# Altium schematic symbol library AX_Altium_v2.3.SchLib: 297 symbols (part 2 of 3)
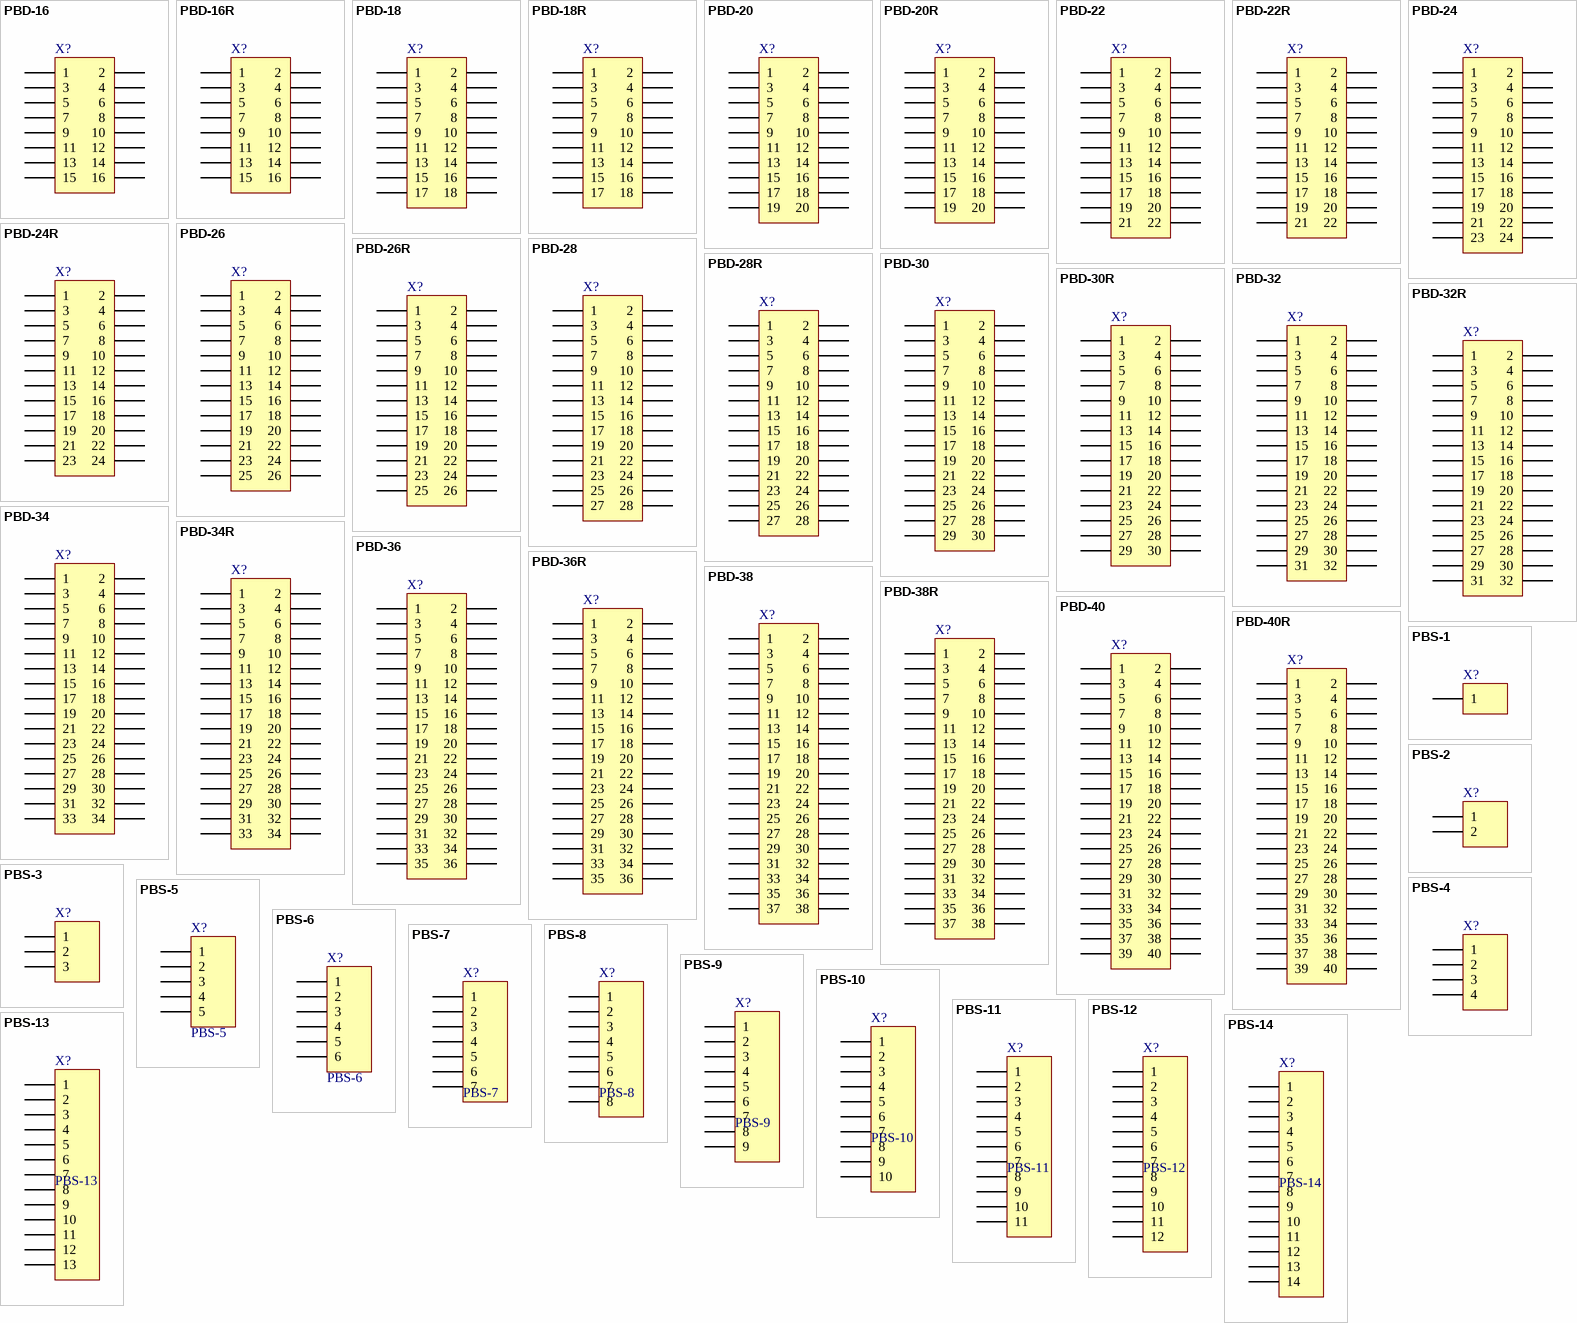
[diagram p10: symbols PBD-16 to PBS-14]

## PBS-13
designator X?
Header, 13-Pin; LatestRevisionDate: 17-Jul-2002; LatestRevisionNote: Re-released for DXP Platform.; Publisher: Altium Limited
footprint PXS-13 (Connector; Header; 13 Position)
footprint PBS-13-3D (Connector; Header; 13 Position)
pins: 1, 2, 3, 4, 5, 6, 7, 8, 9, 10, 11, 12, 13

## PBS-14
designator X?
Header, 14-Pin; LatestRevisionDate: 17-Jul-2002; LatestRevisionNote: Re-released for DXP Platform.; Publisher: Altium Limited
footprint PXS-14 (Connector; Header; 14 Position)
footprint PBS-14-3D (Connector; Header; 14 Position)
pins: 1, 2, 3, 4, 5, 6, 7, 8, 9, 10, 11, 12, 13, 14

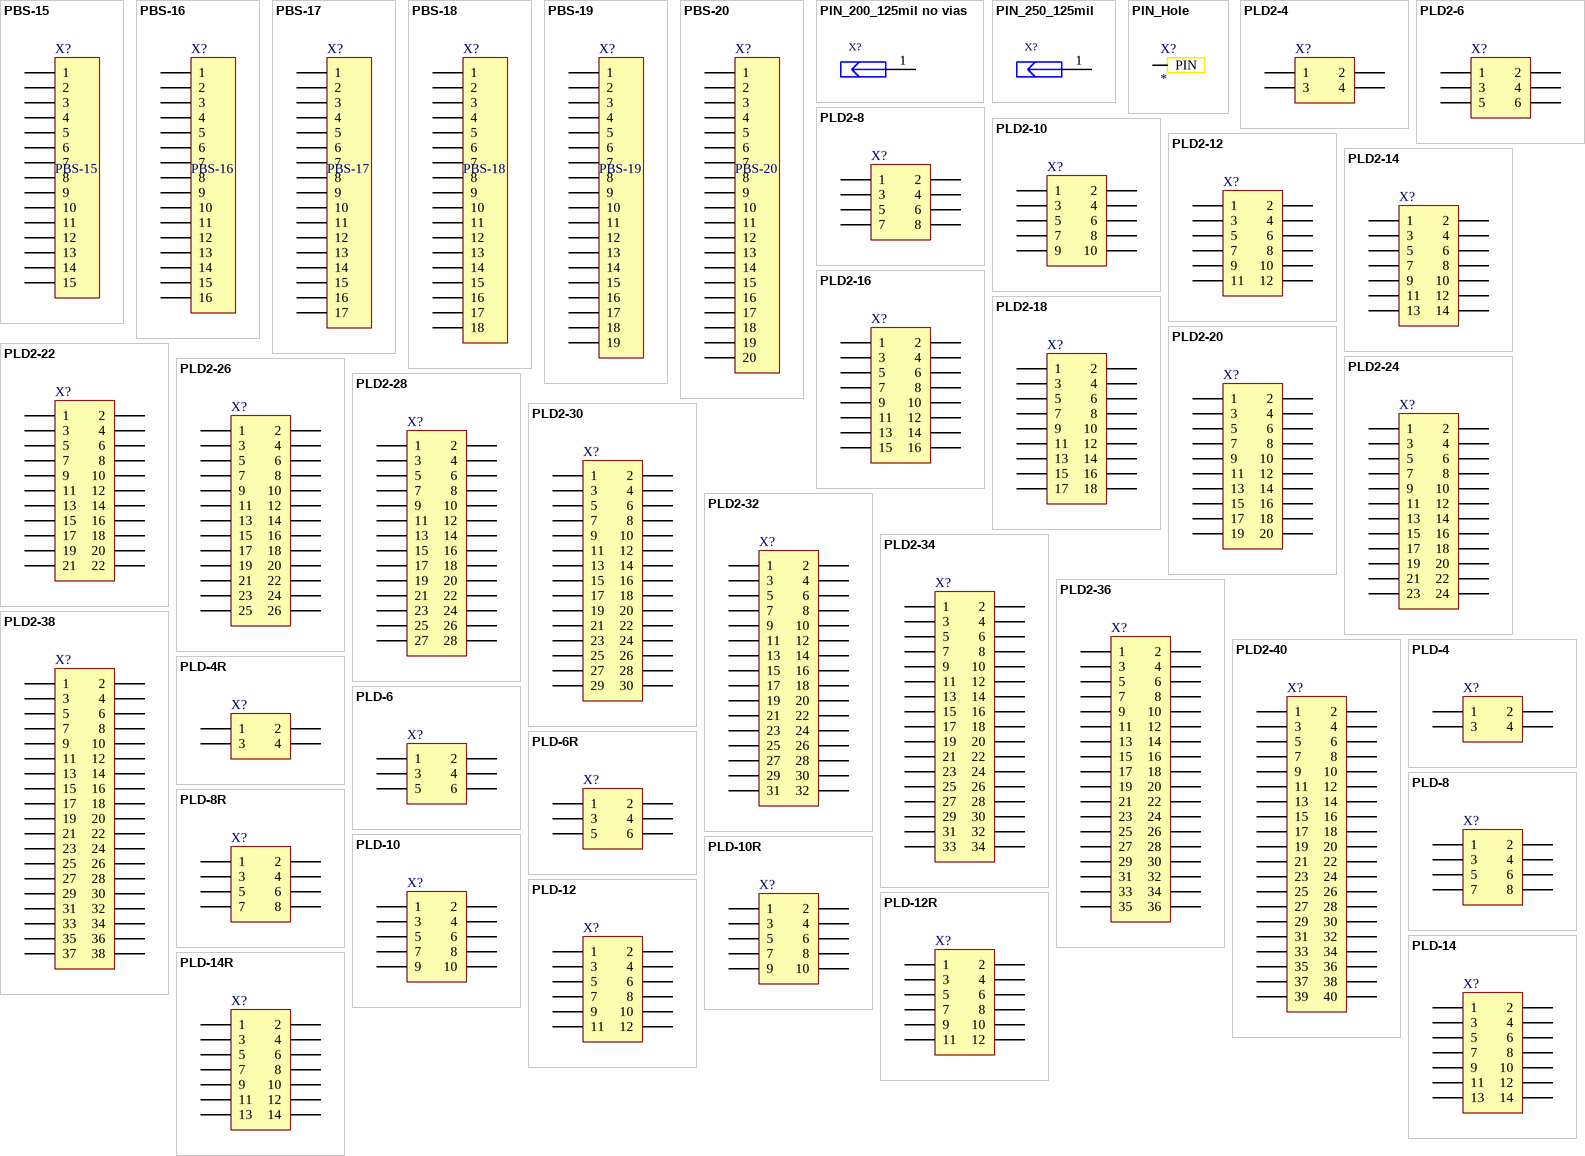
[diagram p4: symbols PBS-15 to PLD-14R]

## PBS-15
designator X?
Header, 15-Pin; LatestRevisionDate: 17-Jul-2002; LatestRevisionNote: Re-released for DXP Platform.; Publisher: Altium Limited
footprint PXS-15 (Connector; Header; 15 Position)
footprint PBS-15-3D (Connector; Header; 15 Position)
pins: 1, 2, 3, 4, 5, 6, 7, 8, 9, 10, 11, 12, 13, 14, 15

## PBS-16
designator X?
Header, 16-Pin; LatestRevisionDate: 17-Jul-2002; LatestRevisionNote: Re-released for DXP Platform.; Publisher: Altium Limited
footprint PXS-16 (Connector; Header; 16 Position)
footprint PBS-16-3D (Connector; Header; 16 Position)
pins: 1, 2, 3, 4, 5, 6, 7, 8, 9, 10, 11, 12, 13, 14, 15, 16

## PBS-17
designator X?
Header, 17-Pin; LatestRevisionDate: 17-Jul-2002; LatestRevisionNote: Re-released for DXP Platform.; Publisher: Altium Limited
footprint PXS-17 (Connector; Header; 17 Position)
footprint PBS-17-3D (Connector; Header; 17 Position)
pins: 1, 2, 3, 4, 5, 6, 7, 8, 9, 10, 11, 12, 13, 14, 15, 16, 17

## PBS-18
designator X?
Header, 18-Pin; LatestRevisionDate: 17-Jul-2002; LatestRevisionNote: Re-released for DXP Platform.; Publisher: Altium Limited
footprint PXS-18 (Connector; Header; 18 Position)
footprint PBS-18-3D (Connector; Header; 18 Position)
pins: 1, 2, 3, 4, 5, 6, 7, 8, 9, 10, 11, 12, 13, 14, 15, 16, 17, 18

## PBS-19
designator X?
Header, 19-Pin; LatestRevisionDate: 17-Jul-2002; LatestRevisionNote: Re-released for DXP Platform.; Publisher: Altium Limited
footprint PXS-19 (Connector; Header; 19 Position)
footprint PBS-19-3D (Connector; Header; 19 Position)
pins: 1, 2, 3, 4, 5, 6, 7, 8, 9, 10, 11, 12, 13, 14, 15, 16, 17, 18, 19

## PBS-20
designator X?
Header, 20-Pin; LatestRevisionDate: 17-Jul-2002; LatestRevisionNote: Re-released for DXP Platform.; Publisher: Altium Limited
footprint PXS-20 (Connector; Header; 20 Position)
footprint PBS-20-3D (Connector; Header; 20 Position)
pins: 1, 2, 3, 4, 5, 6, 7, 8, 9, 10, 11, 12, 13, 14, 15, 16, 17, 18, 19, 20

## PIN_200_125mil no vias
designator X?, comment Pin 200x125 mil no vias  (value not drawn)
Pin 200x125 mil; Value: *
footprint PIN_200_125 no vias
pins: 1

## PIN_250_125mil
designator X?, comment Pin 250x125 mil  (value not drawn)
Value: *
footprint PIN_250_125
pins: 1

## PIN_Hole
designator X?
footprint PIN_Hole (Pin for PS1_module (FOX G20))
footprint PIN_Hole-6
footprint PIN_Hole-09-15
pins: 1 PIN

## PLD2-4
designator X?  (value not drawn)
Header, 2-Pin, Dual row; LatestRevisionDate: 17-Jul-2002; LatestRevisionNote: Re-released for DXP Platform.; Publisher: Altium Limited
footprint PLD-4-2 (Connector; Header; 2x2 Position)
footprint PXD-4-2 (Connector; Header; 2x2 Position)
pins: 1, 2, 3, 4

## PLD2-6
designator X?  (value not drawn)
Header, 3-Pin, Dual row; LatestRevisionDate: 17-Jul-2002; LatestRevisionNote: Re-released for DXP Platform.; Publisher: Altium Limited
footprint PLD-6-2 (Connector; Header; 3x2 Position)
footprint PXD-6-2 (Connector; Header; 3x2 Position)
pins: 1, 2, 3, 4, 5, 6

## PLD2-8
designator X?  (value not drawn)
Header, 4-Pin, Dual row
footprint PLD-8-2 (Connector; Header; 4x2 Position)
footprint PXD-8-2 (Connector; Header; 4x2 Position)
pins: 1, 2, 3, 4, 5, 6, 7, 8

## PLD2-10
designator X?  (value not drawn)
Header, 5-Pin, Dual row
footprint PLD-10-2 (Connector; Header; 5x2 Position)
footprint PXD-10-2 (Connector; Header; 5x2 Position)
pins: 1, 2, 3, 4, 5, 6, 7, 8, 9, 10

## PLD2-12
designator X?  (value not drawn)
Header, 6-Pin, Dual row; LatestRevisionDate: 17-Jul-2002; LatestRevisionNote: Re-released for DXP Platform.; Publisher: Altium Limited
footprint PLD-12-2 (Connector; Header; 6x2 Position)
footprint PXD-12-2 (Connector; Header; 6x2 Position)
pins: 1, 2, 3, 4, 5, 6, 7, 8, 9, 10, 11, 12

## PLD2-14
designator X?  (value not drawn)
Header, 7-Pin, Dual row; LatestRevisionDate: 17-Jul-2002; LatestRevisionNote: Re-released for DXP Platform.; Publisher: Altium Limited
footprint PLD-14-2 (Connector; Header; 7x2 Position)
footprint PXD-14-2 (Connector; Header; 7x2 Position)
pins: 1, 2, 3, 4, 5, 6, 7, 8, 9, 10, 11, 12, 13, 14

## PLD2-16
designator X?  (value not drawn)
Header, 8-Pin, Dual row; LatestRevisionDate: 17-Jul-2002; LatestRevisionNote: Re-released for DXP Platform.; Publisher: Altium Limited
footprint PLD-16-2 (Connector; Header; 8x2 Position)
footprint PXD-16-2 (Connector; Header; 8x2 Position)
pins: 1, 2, 3, 4, 5, 6, 7, 8, 9, 10, 11, 12, 13, 14, 15, 16

## PLD2-18
designator X?  (value not drawn)
Header, 9-Pin, Dual row; LatestRevisionDate: 17-Jul-2002; LatestRevisionNote: Re-released for DXP Platform.; Publisher: Altium Limited
footprint PLD-18-2 (Connector; Header; 9x2 Position)
footprint PXD-18-2 (Connector; Header; 9x2 Position)
pins: 1, 2, 3, 4, 5, 6, 7, 8, 9, 10, 11, 12, 13, 14, 15, 16, 17, 18

## PLD2-20
designator X?  (value not drawn)
Header, 10-Pin, Dual row; LatestRevisionDate: 17-Jul-2002; LatestRevisionNote: Re-released for DXP Platform.; Publisher: Altium Limited
footprint PLD-20-2 (Connector; Header; 10x2 Position)
footprint PXD-20-2 (Connector; Header; 10x2 Position)
pins: 1, 2, 3, 4, 5, 6, 7, 8, 9, 10, 11, 12, 13, 14, 15, 16, 17, 18, 19, 20

## PLD2-22
designator X?  (value not drawn)
Header, 11-Pin, Dual row; LatestRevisionDate: 17-Jul-2002; LatestRevisionNote: Re-released for DXP Platform.; Publisher: Altium Limited
footprint PLD-22-2 (Connector; Header; 11x2 Position)
footprint PXD-22-2 (Connector; Header; 11x2 Position)
pins: 1, 2, 3, 4, 5, 6, 7, 8, 9, 10, 11, 12, 13, 14, 15, 16, 17, 18, 19, 20, 21, 22

## PLD2-24
designator X?  (value not drawn)
Header, 12-Pin, Dual row; LatestRevisionDate: 17-Jul-2002; LatestRevisionNote: Re-released for DXP Platform.; Publisher: Altium Limited
footprint pld-24-2 (Connector; Header; 12x2 Position)
footprint pxd-24-2 (Connector; Header; 12x2 Position)
pins: 1, 2, 3, 4, 5, 6, 7, 8, 9, 10, 11, 12, 13, 14, 15, 16, 17, 18, 19, 20, 21, 22, 23, 24

## PLD2-26
designator X?  (value not drawn)
Header, 13-Pin, Dual row; LatestRevisionDate: 17-Jul-2002; LatestRevisionNote: Re-released for DXP Platform.; Publisher: Altium Limited
footprint PLD-26-2 (Connector; Header; 13x2 Position)
footprint PXD-26-2 (Connector; Header; 13x2 Position)
pins: 1, 2, 3, 4, 5, 6, 7, 8, 9, 10, 11, 12, 13, 14, 15, 16, 17, 18, 19, 20, 21, 22, 23, 24, 25, 26

## PLD2-28
designator X?  (value not drawn)
Header, 14-Pin, Dual row; LatestRevisionDate: 17-Jul-2002; LatestRevisionNote: Re-released for DXP Platform.; Publisher: Altium Limited
footprint PLD-28-2 (Connector; Header; 14x2 Position)
footprint PXD-28-2 (Connector; Header; 14x2 Position)
pins: 1, 2, 3, 4, 5, 6, 7, 8, 9, 10, 11, 12, 13, 14, 15, 16, 17, 18, 19, 20, 21, 22, 23, 24, 25, 26, 27, 28

## PLD2-30
designator X?  (value not drawn)
Header, 15-Pin, Dual row; LatestRevisionDate: 17-Jul-2002; LatestRevisionNote: Re-released for DXP Platform.; Publisher: Altium Limited
footprint PLD-30-2 (Connector; Header; 15x2 Position)
footprint PXD-30-2 (Connector; Header; 15x2 Position)
pins: 1, 2, 3, 4, 5, 6, 7, 8, 9, 10, 11, 12, 13, 14, 15, 16, 17, 18, 19, 20, 21, 22, 23, 24, 25, 26, 27, 28, 29, 30

## PLD2-32
designator X?  (value not drawn)
Header, 16-Pin, Dual row; LatestRevisionDate: 17-Jul-2002; LatestRevisionNote: Re-released for DXP Platform.; Publisher: Altium Limited
footprint PLD-32-2 (Connector; Header; 16x2 Position)
footprint PXD-32-2 (Connector; Header; 16x2 Position)
pins: 1, 2, 3, 4, 5, 6, 7, 8, 9, 10, 11, 12, 13, 14, 15, 16, 17, 18, 19, 20, 21, 22, 23, 24, 25, 26, 27, 28, 29, 30, 31, 32

## PLD2-34
designator X?  (value not drawn)
Header, 17-Pin, Dual row; LatestRevisionDate: 17-Jul-2002; LatestRevisionNote: Re-released for DXP Platform.; Publisher: Altium Limited
footprint PLD-34-2 (Connector; Header; 17x2 Position)
footprint PXD-34-2 (Connector; Header; 17x2 Position)
pins: 1, 2, 3, 4, 5, 6, 7, 8, 9, 10, 11, 12, 13, 14, 15, 16, 17, 18, 19, 20, 21, 22, 23, 24, 25, 26, 27, 28, 29, 30, 31, 32, 33, 34

## PLD2-36
designator X?  (value not drawn)
Header, 18-Pin, Dual row; LatestRevisionDate: 17-Jul-2002; LatestRevisionNote: Re-released for DXP Platform.; Publisher: Altium Limited
footprint PLD-36-2 (Connector; Header; 18x2 Position)
footprint PXD-36-2 (Connector; Header; 18x2 Position)
pins: 1, 2, 3, 4, 5, 6, 7, 8, 9, 10, 11, 12, 13, 14, 15, 16, 17, 18, 19, 20, 21, 22, 23, 24, 25, 26, 27, 28, 29, 30, 31, 32, 33, 34, 35, 36

## PLD2-38
designator X?  (value not drawn)
Header, 19-Pin, Dual row; LatestRevisionDate: 17-Jul-2002; LatestRevisionNote: Re-released for DXP Platform.; Publisher: Altium Limited
footprint PLD-38-2 (Connector; Header; 19x2 Position)
footprint PXD-38-2 (Connector; Header; 19x2 Position)
pins: 1, 2, 3, 4, 5, 6, 7, 8, 9, 10, 11, 12, 13, 14, 15, 16, 17, 18, 19, 20, 21, 22, 23, 24, 25, 26, 27, 28, 29, 30, 31, 32, 33, 34, 35, 36, 37, 38

## PLD2-40
designator X?  (value not drawn)
Header, 20-Pin, Dual row; LatestRevisionDate: 17-Jul-2002; LatestRevisionNote: Re-released for DXP Platform.; Publisher: Altium Limited
footprint PLD-40-2 (Connector; Header; 20x2 Position)
footprint PXD-40-2 (Connector; Header; 20x2 Position)
pins: 1, 2, 3, 4, 5, 6, 7, 8, 9, 10, 11, 12, 13, 14, 15, 16, 17, 18, 19, 20, 21, 22, 23, 24, 25, 26, 27, 28, 29, 30, 31, 32, 33, 34, 35, 36, 37, 38, 39, 40

## PLD-4
designator X?  (value not drawn)
Header, 2-Pin, Dual row; LatestRevisionDate: 17-Jul-2002; LatestRevisionNote: Re-released for DXP Platform.; Publisher: Altium Limited
footprint PLD-4-3D (Connector; Header; 2x2 Position)
footprint PXD-4 (Connector; Header; 2x2 Position)
pins: 1, 2, 3, 4

## PLD-4R
designator X?  (value not drawn)
Header, 2-Pin, Dual row; LatestRevisionDate: 17-Jul-2002; LatestRevisionNote: Re-released for DXP Platform.; Publisher: Altium Limited
footprint PLD-4RR1 (Connector; Header; 2x2 Position)
footprint PLD-4RL1 (Connector; Header; 2x2 Position)
footprint PLD-4RR2 (Connector; Header; 2x2 Position)
footprint PLD-4RL2 (Connector; Header; 2x2 Position)
pins: 1, 2, 3, 4

## PLD-6
designator X?  (value not drawn)
Header, 3-Pin, Dual row; LatestRevisionDate: 17-Jul-2002; LatestRevisionNote: Re-released for DXP Platform.; Publisher: Altium Limited
footprint PLD-6-3D (Connector; Header; 3x2 Position)
footprint PXD-6 (Connector; Header; 3x2 Position)
pins: 1, 2, 3, 4, 5, 6

## PLD-6R
designator X?  (value not drawn)
Header, 3-Pin, Dual row; LatestRevisionDate: 17-Jul-2002; LatestRevisionNote: Re-released for DXP Platform.; Publisher: Altium Limited
footprint PLD-6RR1 (Connector; Header; 3x2 Position)
footprint PLD-6RL1 (Connector; Header; 3x2 Position)
footprint PLD-6RR2 (Connector; Header; 3x2 Position)
footprint PLD-6RL2 (Connector; Header; 3x2 Position)
pins: 1, 2, 3, 4, 5, 6

## PLD-8
designator X?  (value not drawn)
Header, 4-Pin, Dual row
footprint PLD-8-3D (Connector; Header; 4x2 Position)
footprint PXD-8 (Connector; Header; 4x2 Position)
pins: 1, 2, 3, 4, 5, 6, 7, 8

## PLD-8R
designator X?  (value not drawn)
Header, 4-Pin, Dual row
footprint PLD-8RR1 (Connector; Header; 4x2 Position)
footprint PLD-8RL1 (Connector; Header; 4x2 Position)
footprint PLD-8RR2 (Connector; Header; 4x2 Position)
footprint PLD-8RL2 (Connector; Header; 4x2 Position)
pins: 1, 2, 3, 4, 5, 6, 7, 8

## PLD-10
designator X?  (value not drawn)
Header, 5-Pin, Dual row
footprint PLD-10-3D (Connector; Header; 5x2 Position)
footprint PXD-10 (Connector; Header; 5x2 Position)
pins: 1, 2, 3, 4, 5, 6, 7, 8, 9, 10

## PLD-10R
designator X?  (value not drawn)
Header, 5-Pin, Dual row
footprint PLD-10RR1 (Connector; Header; 5x2 Position)
footprint PLD-10RL1 (Connector; Header; 5x2 Position)
footprint PLD-10RR2 (Connector; Header; 5x2 Position)
footprint PLD-10RL2 (Connector; Header; 5x2 Position)
pins: 1, 2, 3, 4, 5, 6, 7, 8, 9, 10

## PLD-12
designator X?  (value not drawn)
Header, 6-Pin, Dual row; LatestRevisionDate: 17-Jul-2002; LatestRevisionNote: Re-released for DXP Platform.; Publisher: Altium Limited
footprint PLD-12-3D (Connector; Header; 6x2 Position)
footprint PXD-12 (Connector; Header; 6x2 Position)
pins: 1, 2, 3, 4, 5, 6, 7, 8, 9, 10, 11, 12

## PLD-12R
designator X?  (value not drawn)
Header, 6-Pin, Dual row; LatestRevisionDate: 17-Jul-2002; LatestRevisionNote: Re-released for DXP Platform.; Publisher: Altium Limited
footprint PLD-12RR1 (Connector; Header; 6x2 Position)
footprint PLD-12RL1 (Connector; Header; 6x2 Position)
footprint PLD-12RR2 (Connector; Header; 6x2 Position)
footprint PLD-12RL2 (Connector; Header; 6x2 Position)
pins: 1, 2, 3, 4, 5, 6, 7, 8, 9, 10, 11, 12

## PLD-14
designator X?  (value not drawn)
Header, 7-Pin, Dual row; LatestRevisionDate: 17-Jul-2002; LatestRevisionNote: Re-released for DXP Platform.; Publisher: Altium Limited
footprint PLD-14-3D (Connector; Header; 7x2 Position)
footprint PXD-14 (Connector; Header; 7x2 Position)
pins: 1, 2, 3, 4, 5, 6, 7, 8, 9, 10, 11, 12, 13, 14

## PLD-14R
designator X?  (value not drawn)
Header, 7-Pin, Dual row; LatestRevisionDate: 17-Jul-2002; LatestRevisionNote: Re-released for DXP Platform.; Publisher: Altium Limited
footprint PLD-14RR1 (Connector; Header; 7x2 Position)
footprint PLD-14RL1 (Connector; Header; 7x2 Position)
footprint PLD-14RR2 (Connector; Header; 7x2 Position)
footprint PLD-14RL2 (Connector; Header; 7x2 Position)
pins: 1, 2, 3, 4, 5, 6, 7, 8, 9, 10, 11, 12, 13, 14

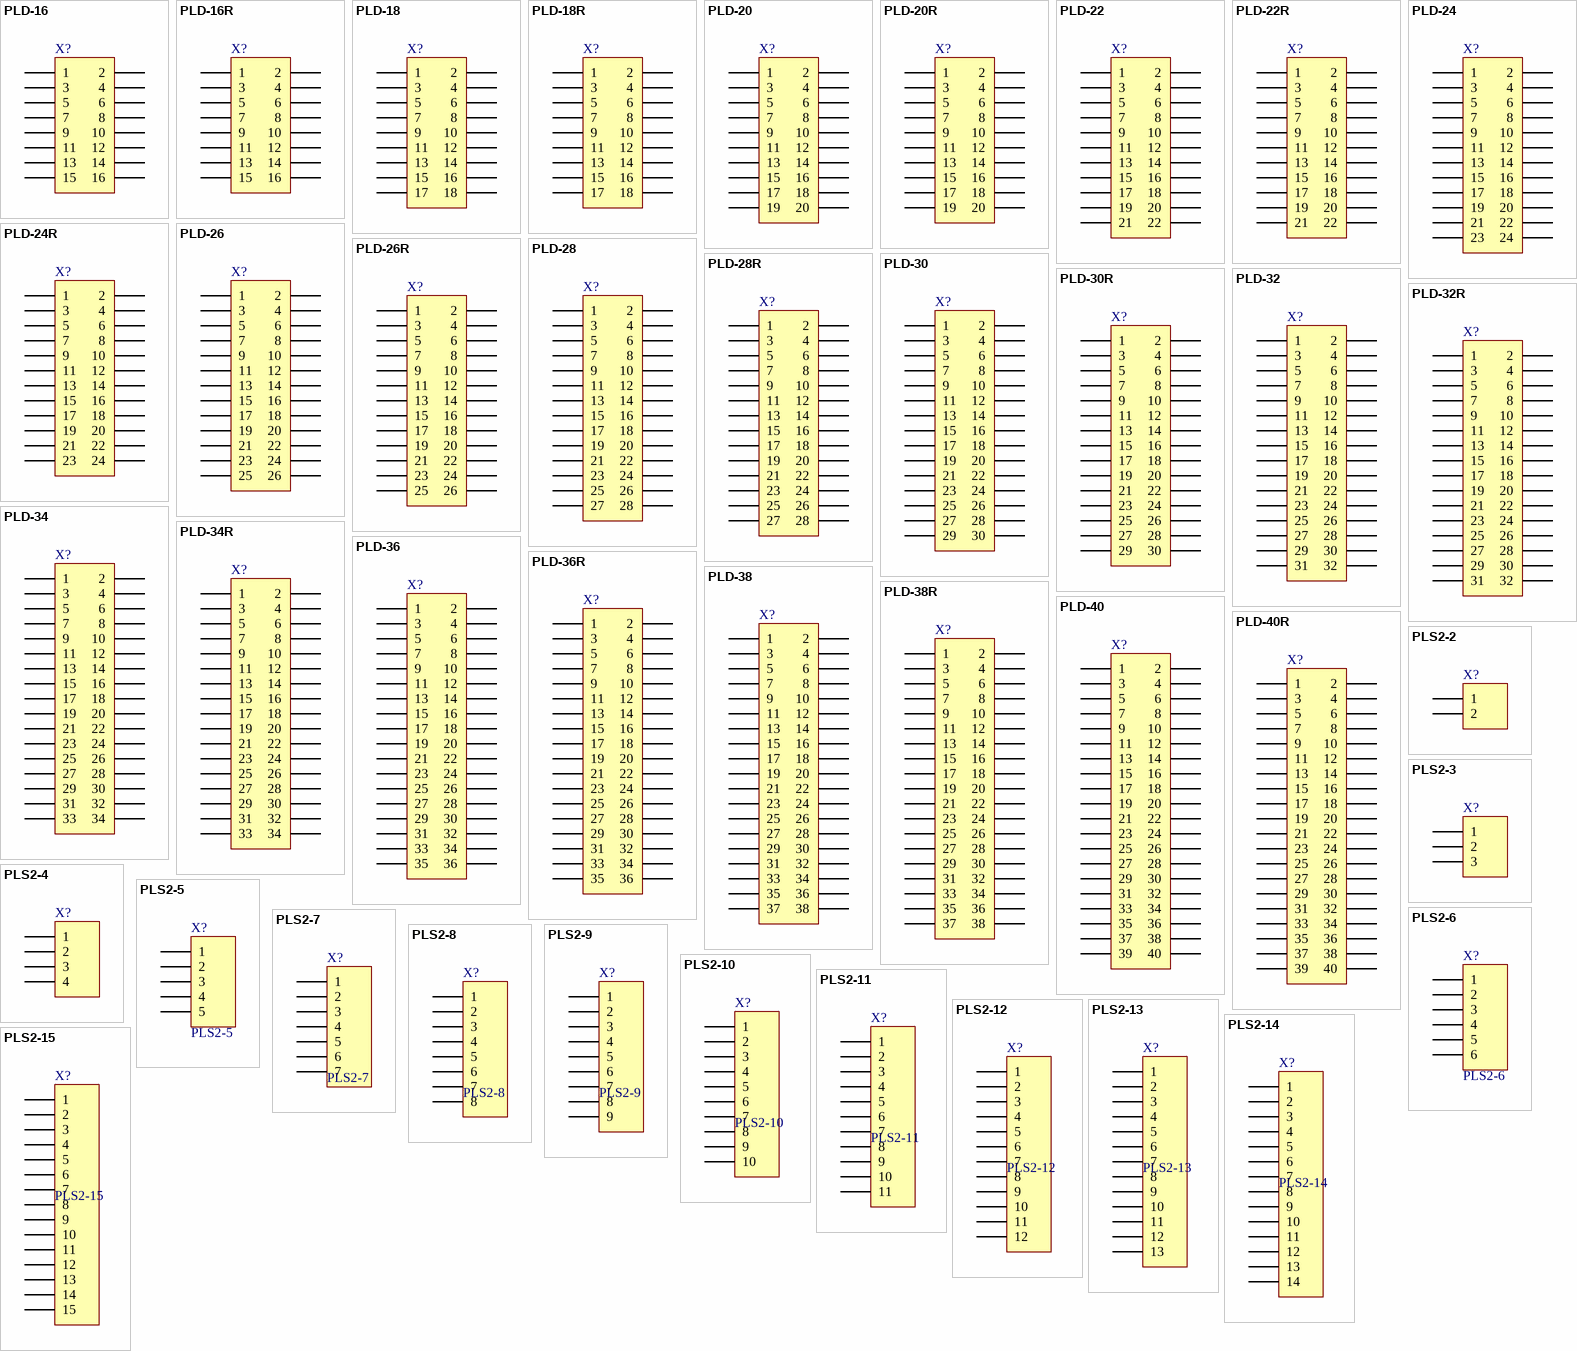
[diagram p5: symbols PLD-16 to PLS2-15]

## PLD-16
designator X?  (value not drawn)
Header, 8-Pin, Dual row; LatestRevisionDate: 17-Jul-2002; LatestRevisionNote: Re-released for DXP Platform.; Publisher: Altium Limited
footprint PLD-16-3D (Connector; Header; 8x2 Position)
footprint PXD-16 (Connector; Header; 8x2 Position)
pins: 1, 2, 3, 4, 5, 6, 7, 8, 9, 10, 11, 12, 13, 14, 15, 16

## PLD-16R
designator X?  (value not drawn)
Header, 8-Pin, Dual row; LatestRevisionDate: 17-Jul-2002; LatestRevisionNote: Re-released for DXP Platform.; Publisher: Altium Limited
footprint PLD-16RR1 (Connector; Header; 8x2 Position)
footprint PLD-16RL1 (Connector; Header; 8x2 Position)
footprint PLD-16RR2 (Connector; Header; 8x2 Position)
footprint PLD-16RL2 (Connector; Header; 8x2 Position)
pins: 1, 2, 3, 4, 5, 6, 7, 8, 9, 10, 11, 12, 13, 14, 15, 16

## PLD-18
designator X?  (value not drawn)
Header, 9-Pin, Dual row; LatestRevisionDate: 17-Jul-2002; LatestRevisionNote: Re-released for DXP Platform.; Publisher: Altium Limited
footprint PLD-18-3D (Connector; Header; 9x2 Position)
footprint PXD-18 (Connector; Header; 9x2 Position)
pins: 1, 2, 3, 4, 5, 6, 7, 8, 9, 10, 11, 12, 13, 14, 15, 16, 17, 18

## PLD-18R
designator X?  (value not drawn)
Header, 9-Pin, Dual row; LatestRevisionDate: 17-Jul-2002; LatestRevisionNote: Re-released for DXP Platform.; Publisher: Altium Limited
footprint PLD-18RR1 (Connector; Header; 9x2 Position)
footprint PLD-18RL1 (Connector; Header; 9x2 Position)
footprint PLD-18RR2 (Connector; Header; 9x2 Position)
footprint PLD-18RL2 (Connector; Header; 9x2 Position)
pins: 1, 2, 3, 4, 5, 6, 7, 8, 9, 10, 11, 12, 13, 14, 15, 16, 17, 18

## PLD-20
designator X?  (value not drawn)
Header, 10-Pin, Dual row; LatestRevisionDate: 17-Jul-2002; LatestRevisionNote: Re-released for DXP Platform.; Publisher: Altium Limited
footprint PLD-20-3D (Connector; Header; 10x2 Position)
footprint PXD-20 (Connector; Header; 10x2 Position)
pins: 1, 2, 3, 4, 5, 6, 7, 8, 9, 10, 11, 12, 13, 14, 15, 16, 17, 18, 19, 20

## PLD-20R
designator X?  (value not drawn)
Header, 10-Pin, Dual row; LatestRevisionDate: 17-Jul-2002; LatestRevisionNote: Re-released for DXP Platform.; Publisher: Altium Limited
footprint PLD-20RR1 (Connector; Header; 10x2 Position)
footprint PLD-20RL1 (Connector; Header; 10x2 Position)
footprint PLD-20RR2 (Connector; Header; 10x2 Position)
footprint PLD-20RL2 (Connector; Header; 10x2 Position)
pins: 1, 2, 3, 4, 5, 6, 7, 8, 9, 10, 11, 12, 13, 14, 15, 16, 17, 18, 19, 20

## PLD-22
designator X?  (value not drawn)
Header, 11-Pin, Dual row; LatestRevisionDate: 17-Jul-2002; LatestRevisionNote: Re-released for DXP Platform.; Publisher: Altium Limited
footprint PLD-22-3D (Connector; Header; 11x2 Position)
footprint PXD-22 (Connector; Header; 11x2 Position)
pins: 1, 2, 3, 4, 5, 6, 7, 8, 9, 10, 11, 12, 13, 14, 15, 16, 17, 18, 19, 20, 21, 22

## PLD-22R
designator X?  (value not drawn)
Header, 11-Pin, Dual row; LatestRevisionDate: 17-Jul-2002; LatestRevisionNote: Re-released for DXP Platform.; Publisher: Altium Limited
footprint PLD-22RR1 (Connector; Header; 11x2 Position)
footprint PLD-22RL1 (Connector; Header; 11x2 Position)
footprint PLD-22RR2 (Connector; Header; 11x2 Position)
footprint PLD-22RL2 (Connector; Header; 11x2 Position)
pins: 1, 2, 3, 4, 5, 6, 7, 8, 9, 10, 11, 12, 13, 14, 15, 16, 17, 18, 19, 20, 21, 22

## PLD-24
designator X?  (value not drawn)
Header, 12-Pin, Dual row; LatestRevisionDate: 17-Jul-2002; LatestRevisionNote: Re-released for DXP Platform.; Publisher: Altium Limited
footprint PLD-24-3D (Connector; Header; 12x2 Position)
footprint PXD-24 (Connector; Header; 12x2 Position)
pins: 1, 2, 3, 4, 5, 6, 7, 8, 9, 10, 11, 12, 13, 14, 15, 16, 17, 18, 19, 20, 21, 22, 23, 24

## PLD-24R
designator X?  (value not drawn)
Header, 12-Pin, Dual row; LatestRevisionDate: 17-Jul-2002; LatestRevisionNote: Re-released for DXP Platform.; Publisher: Altium Limited
footprint PLD-24RR1 (Connector; Header; 12x2 Position)
footprint PLD-24RL1 (Connector; Header; 12x2 Position)
footprint PLD-24RR2 (Connector; Header; 12x2 Position)
footprint PLD-24RL2 (Connector; Header; 12x2 Position)
pins: 1, 2, 3, 4, 5, 6, 7, 8, 9, 10, 11, 12, 13, 14, 15, 16, 17, 18, 19, 20, 21, 22, 23, 24

## PLD-26
designator X?  (value not drawn)
Header, 13-Pin, Dual row; LatestRevisionDate: 17-Jul-2002; LatestRevisionNote: Re-released for DXP Platform.; Publisher: Altium Limited
footprint PLD-26-3D (Connector; Header; 13x2 Position)
footprint PXD-26 (Connector; Header; 13x2 Position)
pins: 1, 2, 3, 4, 5, 6, 7, 8, 9, 10, 11, 12, 13, 14, 15, 16, 17, 18, 19, 20, 21, 22, 23, 24, 25, 26

## PLD-26R
designator X?  (value not drawn)
Header, 13-Pin, Dual row; LatestRevisionDate: 17-Jul-2002; LatestRevisionNote: Re-released for DXP Platform.; Publisher: Altium Limited
footprint PLD-26RR1 (Connector; Header; 13x2 Position)
footprint PLD-26RL1 (Connector; Header; 13x2 Position)
footprint PLD-26RR2 (Connector; Header; 13x2 Position)
footprint PLD-26RL2 (Connector; Header; 13x2 Position)
pins: 1, 2, 3, 4, 5, 6, 7, 8, 9, 10, 11, 12, 13, 14, 15, 16, 17, 18, 19, 20, 21, 22, 23, 24, 25, 26

## PLD-28
designator X?  (value not drawn)
Header, 14-Pin, Dual row; LatestRevisionDate: 17-Jul-2002; LatestRevisionNote: Re-released for DXP Platform.; Publisher: Altium Limited
footprint PLD-28-3D (Connector; Header; 14x2 Position)
footprint PXD-28 (Connector; Header; 14x2 Position)
pins: 1, 2, 3, 4, 5, 6, 7, 8, 9, 10, 11, 12, 13, 14, 15, 16, 17, 18, 19, 20, 21, 22, 23, 24, 25, 26, 27, 28

## PLD-28R
designator X?  (value not drawn)
Header, 14-Pin, Dual row; LatestRevisionDate: 17-Jul-2002; LatestRevisionNote: Re-released for DXP Platform.; Publisher: Altium Limited
footprint PLD-28RR1 (Connector; Header; 14x2 Position)
footprint PLD-28RL1 (Connector; Header; 14x2 Position)
footprint PLD-28RR2 (Connector; Header; 14x2 Position)
footprint PLD-28RL2 (Connector; Header; 14x2 Position)
pins: 1, 2, 3, 4, 5, 6, 7, 8, 9, 10, 11, 12, 13, 14, 15, 16, 17, 18, 19, 20, 21, 22, 23, 24, 25, 26, 27, 28

## PLD-30
designator X?  (value not drawn)
Header, 15-Pin, Dual row; LatestRevisionDate: 17-Jul-2002; LatestRevisionNote: Re-released for DXP Platform.; Publisher: Altium Limited
footprint PLD-30-3D (Connector; Header; 15x2 Position)
footprint PXD-30 (Connector; Header; 15x2 Position)
pins: 1, 2, 3, 4, 5, 6, 7, 8, 9, 10, 11, 12, 13, 14, 15, 16, 17, 18, 19, 20, 21, 22, 23, 24, 25, 26, 27, 28, 29, 30

## PLD-30R
designator X?  (value not drawn)
Header, 15-Pin, Dual row; LatestRevisionDate: 17-Jul-2002; LatestRevisionNote: Re-released for DXP Platform.; Publisher: Altium Limited
footprint PLD-30RR1 (Connector; Header; 15x2 Position)
footprint PLD-30RL1 (Connector; Header; 15x2 Position)
footprint PLD-30RR2 (Connector; Header; 15x2 Position)
footprint PLD-30Rl2 (Connector; Header; 15x2 Position)
pins: 1, 2, 3, 4, 5, 6, 7, 8, 9, 10, 11, 12, 13, 14, 15, 16, 17, 18, 19, 20, 21, 22, 23, 24, 25, 26, 27, 28, 29, 30

## PLD-32
designator X?  (value not drawn)
Header, 16-Pin, Dual row; LatestRevisionDate: 17-Jul-2002; LatestRevisionNote: Re-released for DXP Platform.; Publisher: Altium Limited
footprint PLD-32-3D (Connector; Header; 16x2 Position)
footprint PXD-32 (Connector; Header; 16x2 Position)
pins: 1, 2, 3, 4, 5, 6, 7, 8, 9, 10, 11, 12, 13, 14, 15, 16, 17, 18, 19, 20, 21, 22, 23, 24, 25, 26, 27, 28, 29, 30, 31, 32

## PLD-32R
designator X?  (value not drawn)
Header, 16-Pin, Dual row; LatestRevisionDate: 17-Jul-2002; LatestRevisionNote: Re-released for DXP Platform.; Publisher: Altium Limited
footprint PLD-32RR1 (Connector; Header; 16x2 Position)
footprint PLD-32RL1 (Connector; Header; 16x2 Position)
footprint PLD-32RR2 (Connector; Header; 16x2 Position)
footprint PLD-32RL2 (Connector; Header; 16x2 Position)
pins: 1, 2, 3, 4, 5, 6, 7, 8, 9, 10, 11, 12, 13, 14, 15, 16, 17, 18, 19, 20, 21, 22, 23, 24, 25, 26, 27, 28, 29, 30, 31, 32

## PLD-34
designator X?  (value not drawn)
Header, 17-Pin, Dual row; LatestRevisionDate: 17-Jul-2002; LatestRevisionNote: Re-released for DXP Platform.; Publisher: Altium Limited
footprint PLD-34-3D (Connector; Header; 17x2 Position)
footprint PXD-34 (Connector; Header; 17x2 Position)
pins: 1, 2, 3, 4, 5, 6, 7, 8, 9, 10, 11, 12, 13, 14, 15, 16, 17, 18, 19, 20, 21, 22, 23, 24, 25, 26, 27, 28, 29, 30, 31, 32, 33, 34

## PLD-34R
designator X?  (value not drawn)
Header, 17-Pin, Dual row; LatestRevisionDate: 17-Jul-2002; LatestRevisionNote: Re-released for DXP Platform.; Publisher: Altium Limited
footprint PLD-34RR1 (Connector; Header; 17x2 Position)
footprint PLD-34RL1 (Connector; Header; 17x2 Position)
footprint PLD-34RR2 (Connector; Header; 17x2 Position)
footprint PLD-34RL2 (Connector; Header; 17x2 Position)
pins: 1, 2, 3, 4, 5, 6, 7, 8, 9, 10, 11, 12, 13, 14, 15, 16, 17, 18, 19, 20, 21, 22, 23, 24, 25, 26, 27, 28, 29, 30, 31, 32, 33, 34

## PLD-36
designator X?  (value not drawn)
Header, 18-Pin, Dual row; LatestRevisionDate: 17-Jul-2002; LatestRevisionNote: Re-released for DXP Platform.; Publisher: Altium Limited
footprint PLD-36-3D (Connector; Header; 18x2 Position)
footprint PXD-36 (Connector; Header; 18x2 Position)
pins: 1, 2, 3, 4, 5, 6, 7, 8, 9, 10, 11, 12, 13, 14, 15, 16, 17, 18, 19, 20, 21, 22, 23, 24, 25, 26, 27, 28, 29, 30, 31, 32, 33, 34, 35, 36

## PLD-36R
designator X?  (value not drawn)
Header, 18-Pin, Dual row; LatestRevisionDate: 17-Jul-2002; LatestRevisionNote: Re-released for DXP Platform.; Publisher: Altium Limited
footprint PLD-36RR1 (Connector; Header; 18x2 Position)
footprint PLD-36RL1 (Connector; Header; 18x2 Position)
footprint PLD-36RR2 (Connector; Header; 18x2 Position)
footprint PLD-36RL2 (Connector; Header; 18x2 Position)
pins: 1, 2, 3, 4, 5, 6, 7, 8, 9, 10, 11, 12, 13, 14, 15, 16, 17, 18, 19, 20, 21, 22, 23, 24, 25, 26, 27, 28, 29, 30, 31, 32, 33, 34, 35, 36

## PLD-38
designator X?  (value not drawn)
Header, 19-Pin, Dual row; LatestRevisionDate: 17-Jul-2002; LatestRevisionNote: Re-released for DXP Platform.; Publisher: Altium Limited
footprint PLD-38-3D (Connector; Header; 19x2 Position)
footprint PXD-38 (Connector; Header; 19x2 Position)
pins: 1, 2, 3, 4, 5, 6, 7, 8, 9, 10, 11, 12, 13, 14, 15, 16, 17, 18, 19, 20, 21, 22, 23, 24, 25, 26, 27, 28, 29, 30, 31, 32, 33, 34, 35, 36, 37, 38

## PLD-38R
designator X?  (value not drawn)
Header, 19-Pin, Dual row; LatestRevisionDate: 17-Jul-2002; LatestRevisionNote: Re-released for DXP Platform.; Publisher: Altium Limited
footprint PLD-38RR1 (Connector; Header; 19x2 Position)
footprint PLD-38RL1 (Connector; Header; 19x2 Position)
footprint PLD-38RR2 (Connector; Header; 19x2 Position)
footprint PLD-38RL2 (Connector; Header; 19x2 Position)
pins: 1, 2, 3, 4, 5, 6, 7, 8, 9, 10, 11, 12, 13, 14, 15, 16, 17, 18, 19, 20, 21, 22, 23, 24, 25, 26, 27, 28, 29, 30, 31, 32, 33, 34, 35, 36, 37, 38

## PLD-40
designator X?  (value not drawn)
Header, 20-Pin, Dual row; LatestRevisionDate: 17-Jul-2002; LatestRevisionNote: Re-released for DXP Platform.; Publisher: Altium Limited
footprint PLD-40-3D (Connector; Header; 20x2 Position)
footprint PXD-40 (Connector; Header; 20x2 Position)
pins: 1, 2, 3, 4, 5, 6, 7, 8, 9, 10, 11, 12, 13, 14, 15, 16, 17, 18, 19, 20, 21, 22, 23, 24, 25, 26, 27, 28, 29, 30, 31, 32, 33, 34, 35, 36, 37, 38, 39, 40

## PLD-40R
designator X?  (value not drawn)
Header, 20-Pin, Dual row; LatestRevisionDate: 17-Jul-2002; LatestRevisionNote: Re-released for DXP Platform.; Publisher: Altium Limited
footprint PLD-40RR1 (Connector; Header; 20x2 Position)
footprint PLD-40RL1 (Connector; Header; 20x2 Position)
footprint PLD-40RR2 (Connector; Header; 20x2 Position)
footprint PLD-40RL2 (Connector; Header; 20x2 Position)
pins: 1, 2, 3, 4, 5, 6, 7, 8, 9, 10, 11, 12, 13, 14, 15, 16, 17, 18, 19, 20, 21, 22, 23, 24, 25, 26, 27, 28, 29, 30, 31, 32, 33, 34, 35, 36, 37, 38, 39, 40

## PLS2-2
designator X?  (value not drawn)
Header, 2-Pin; LatestRevisionDate: 17-Jul-2002; LatestRevisionNote: Re-released for DXP Platform.; Publisher: Altium Limited
footprint PLS-2-2 (Connector; Header; 1x2 Position)
pins: 1, 2

## PLS2-3
designator X?  (value not drawn)
Header, 3-Pin; LatestRevisionDate: 17-Jul-2002; LatestRevisionNote: Re-released for DXP Platform.; Publisher: Altium Limited
footprint PLS-3-2 (Connector; Header; 1x3 Position)
pins: 1, 2, 3

## PLS2-4
designator X?  (value not drawn)
Header, 4-Pin; LatestRevisionDate: 17-Jul-2002; LatestRevisionNote: Re-released for DXP Platform.; Publisher: Altium Limited
footprint PLS-4-2 (Connector; Header; 1x4 Position)
pins: 1, 2, 3, 4

## PLS2-5
designator X?
Header, 5-Pin; LatestRevisionDate: 17-Jul-2002; LatestRevisionNote: Re-released for DXP Platform.; Publisher: Altium Limited
footprint PLS-5-2 (Connector; Header; 1x5 Position)
pins: 1, 2, 3, 4, 5

## PLS2-6
designator X?
Header, 6-Pin; LatestRevisionDate: 17-Jul-2002; LatestRevisionNote: Re-released for DXP Platform.; Publisher: Altium Limited
footprint PLS-6-2 (Connector; Header; 1x6 Position)
pins: 1, 2, 3, 4, 5, 6

## PLS2-7
designator X?
Header, 7-Pin; LatestRevisionDate: 17-Jul-2002; LatestRevisionNote: Re-released for DXP Platform.; Publisher: Altium Limited
footprint PLS-7-2 (Connector; Header; 1x7 Position)
pins: 1, 2, 3, 4, 5, 6, 7

## PLS2-8
designator X?
Header, 8-Pin; LatestRevisionDate: 17-Jul-2002; LatestRevisionNote: Re-released for DXP Platform.; Publisher: Altium Limited
footprint PLS-8-2 (Connector; Header; 1x8 Position)
pins: 1, 2, 3, 4, 5, 6, 7, 8

## PLS2-9
designator X?
Header, 9-Pin; LatestRevisionDate: 17-Jul-2002; LatestRevisionNote: Re-released for DXP Platform.; Publisher: Altium Limited
footprint PLS-9-2 (Connector; Header; 1x9 Position)
pins: 1, 2, 3, 4, 5, 6, 7, 8, 9

## PLS2-10
designator X?
Header, 10-Pin; LatestRevisionDate: 17-Jul-2002; LatestRevisionNote: Re-released for DXP Platform.; Publisher: Altium Limited
footprint PLS-10-2 (Connector; Header; 1x10 Position)
pins: 1, 2, 3, 4, 5, 6, 7, 8, 9, 10

## PLS2-11
designator X?
Header, 11-Pin; LatestRevisionDate: 17-Jul-2002; LatestRevisionNote: Re-released for DXP Platform.; Publisher: Altium Limited
footprint PLS-11-2 (Connector; Header; 1x11 Position)
pins: 1, 2, 3, 4, 5, 6, 7, 8, 9, 10, 11

## PLS2-12
designator X?
Header, 12-Pin; LatestRevisionDate: 17-Jul-2002; LatestRevisionNote: Re-released for DXP Platform.; Publisher: Altium Limited
footprint PLS-12-2 (Connector; Header; 1x12 Position)
pins: 1, 2, 3, 4, 5, 6, 7, 8, 9, 10, 11, 12

## PLS2-13
designator X?
Header, 13-Pin; LatestRevisionDate: 17-Jul-2002; LatestRevisionNote: Re-released for DXP Platform.; Publisher: Altium Limited
footprint PLS-13-2 (Connector; Header; 1x13 Position)
pins: 1, 2, 3, 4, 5, 6, 7, 8, 9, 10, 11, 12, 13

## PLS2-14
designator X?
Header, 14-Pin; LatestRevisionDate: 17-Jul-2002; LatestRevisionNote: Re-released for DXP Platform.; Publisher: Altium Limited
footprint PLS-14-2 (Connector; Header; 1x14 Position)
pins: 1, 2, 3, 4, 5, 6, 7, 8, 9, 10, 11, 12, 13, 14

## PLS2-15
designator X?
Header, 15-Pin; LatestRevisionDate: 17-Jul-2002; LatestRevisionNote: Re-released for DXP Platform.; Publisher: Altium Limited
footprint PLS-15-2 (Connector; Header; 1x15 Position)
pins: 1, 2, 3, 4, 5, 6, 7, 8, 9, 10, 11, 12, 13, 14, 15

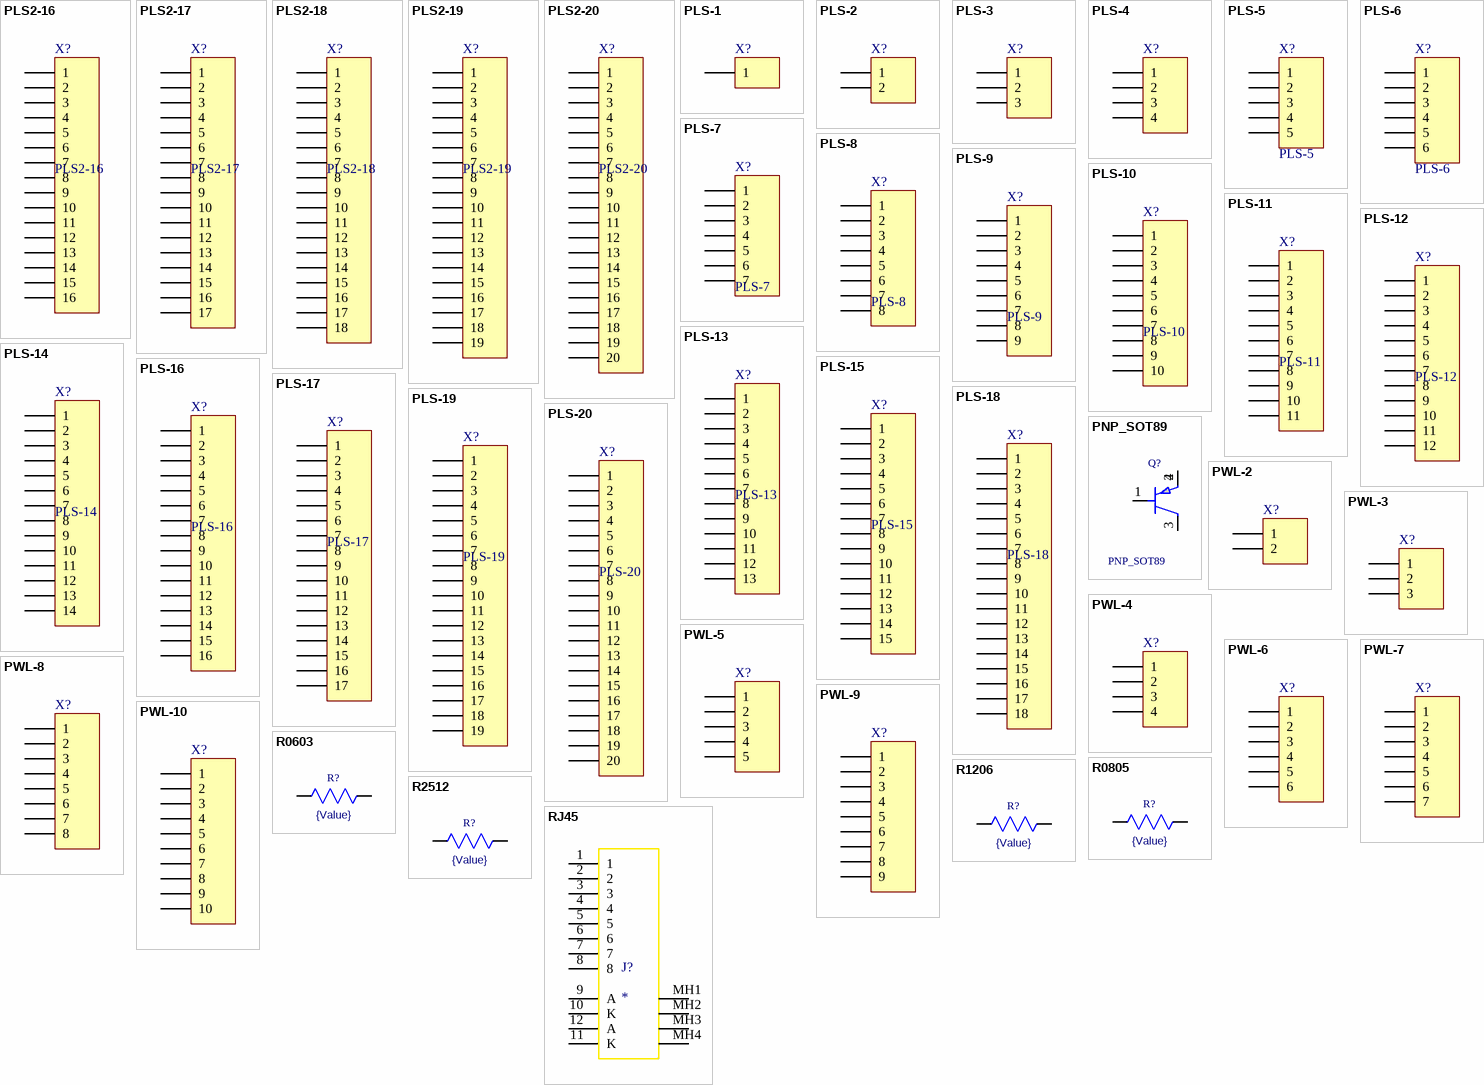
[diagram p6: symbols PLS2-16 to RJ45]

## PLS2-16
designator X?
Header, 16-Pin; LatestRevisionDate: 17-Jul-2002; LatestRevisionNote: Re-released for DXP Platform.; Publisher: Altium Limited
footprint PLS-16-2 (Connector; Header; 1x16 Position)
pins: 1, 2, 3, 4, 5, 6, 7, 8, 9, 10, 11, 12, 13, 14, 15, 16

## PLS2-17
designator X?
Header, 17-Pin; LatestRevisionDate: 17-Jul-2002; LatestRevisionNote: Re-released for DXP Platform.; Publisher: Altium Limited
footprint PLS-17-2 (Connector; Header; 1x17 Position)
pins: 1, 2, 3, 4, 5, 6, 7, 8, 9, 10, 11, 12, 13, 14, 15, 16, 17

## PLS2-18
designator X?
Header, 18-Pin; LatestRevisionDate: 17-Jul-2002; LatestRevisionNote: Re-released for DXP Platform.; Publisher: Altium Limited
footprint PLS-18-2 (Connector; Header; 1x18 Position)
pins: 1, 2, 3, 4, 5, 6, 7, 8, 9, 10, 11, 12, 13, 14, 15, 16, 17, 18

## PLS2-19
designator X?
Header, 19-Pin; LatestRevisionDate: 17-Jul-2002; LatestRevisionNote: Re-released for DXP Platform.; Publisher: Altium Limited
footprint PLS-19-2 (Connector; Header; 1x19 Position)
pins: 1, 2, 3, 4, 5, 6, 7, 8, 9, 10, 11, 12, 13, 14, 15, 16, 17, 18, 19

## PLS2-20
designator X?
Header, 20-Pin; LatestRevisionDate: 17-Jul-2002; LatestRevisionNote: Re-released for DXP Platform.; Publisher: Altium Limited
footprint PLS-20-2 (Connector; Header; 1x20 Position)
pins: 1, 2, 3, 4, 5, 6, 7, 8, 9, 10, 11, 12, 13, 14, 15, 16, 17, 18, 19, 20

## PLS-1
designator X?  (value not drawn)
Header, 1-Pin; LatestRevisionDate: 17-Jul-2002; LatestRevisionNote: Re-released for DXP Platform.; Publisher: Altium Limited
footprint PXS-1 (Connector; Header; 1 Position)
footprint PLS-1-3D (Connector; Header; 1 Position)
pins: 1

## PLS-2
designator X?  (value not drawn)
Header, 2-Pin; LatestRevisionDate: 17-Jul-2002; LatestRevisionNote: Re-released for DXP Platform.; Publisher: Altium Limited
footprint PLS-2-3D (Connector; Header; 2 Position)
footprint PXS-2 (Connector; Header; 2 Position)
pins: 1, 2

## PLS-3
designator X?  (value not drawn)
Header, 3-Pin; LatestRevisionDate: 17-Jul-2002; LatestRevisionNote: Re-released for DXP Platform.; Publisher: Altium Limited
footprint PLS-3-3D (Connector; Header; 3 Position)
footprint PXS-3 (Connector; Header; 3 Position)
pins: 1, 2, 3

## PLS-4
designator X?  (value not drawn)
Header, 4-Pin; LatestRevisionDate: 17-Jul-2002; LatestRevisionNote: Re-released for DXP Platform.; Publisher: Altium Limited
footprint PLS-4-3D (Connector; Header; 4 Position)
footprint PXS-4 (Connector; Header; 4 Position)
pins: 1, 2, 3, 4

## PLS-5
designator X?
Header, 5-Pin; LatestRevisionDate: 17-Jul-2002; LatestRevisionNote: Re-released for DXP Platform.; Publisher: Altium Limited
footprint PLS-5-3D (Connector; Header; 5 Position)
footprint PXS-5 (Connector; Header; 5 Position)
pins: 1, 2, 3, 4, 5

## PLS-6
designator X?
Header, 6-Pin; LatestRevisionDate: 17-Jul-2002; LatestRevisionNote: Re-released for DXP Platform.; Publisher: Altium Limited
footprint PXS-6 (Connector; Header; 6 Position)
footprint PLS-6-3D (Connector; Header; 4 Position)
pins: 1, 2, 3, 4, 5, 6

## PLS-7
designator X?
Header, 7-Pin; LatestRevisionDate: 17-Jul-2002; LatestRevisionNote: Re-released for DXP Platform.; Publisher: Altium Limited
footprint PXS-7 (Connector; Header; 7 Position)
footprint PLS-7-3D (Connector; Header; 7 Position)
pins: 1, 2, 3, 4, 5, 6, 7

## PLS-8
designator X?
Header, 8-Pin; LatestRevisionDate: 17-Jul-2002; LatestRevisionNote: Re-released for DXP Platform.; Publisher: Altium Limited
footprint PXS-8 (Connector; Header; 8 Position)
footprint PLS-8-3D (Connector; Header; 8 Position)
pins: 1, 2, 3, 4, 5, 6, 7, 8

## PLS-9
designator X?
Header, 9-Pin; LatestRevisionDate: 17-Jul-2002; LatestRevisionNote: Re-released for DXP Platform.; Publisher: Altium Limited
footprint PXS-9 (Connector; Header; 9 Position)
footprint PLS-9-3D (Connector; Header; 9 Position)
pins: 1, 2, 3, 4, 5, 6, 7, 8, 9

## PLS-10
designator X?
Header, 10-Pin; LatestRevisionDate: 17-Jul-2002; LatestRevisionNote: Re-released for DXP Platform.; Publisher: Altium Limited
footprint PXS-10 (Connector; Header; 10 Position)
footprint PLS-10-3D (Connector; Header; 10 Position)
pins: 1, 2, 3, 4, 5, 6, 7, 8, 9, 10

## PLS-11
designator X?
Header, 11-Pin; LatestRevisionDate: 17-Jul-2002; LatestRevisionNote: Re-released for DXP Platform.; Publisher: Altium Limited
footprint PXS-11 (Connector; Header; 11 Position)
footprint PLS-11-3D (Connector; Header; 11 Position)
pins: 1, 2, 3, 4, 5, 6, 7, 8, 9, 10, 11

## PLS-12
designator X?
Header, 12-Pin; LatestRevisionDate: 17-Jul-2002; LatestRevisionNote: Re-released for DXP Platform.; Publisher: Altium Limited
footprint PXS-12 (Connector; Header; 12 Position)
footprint PLS-12-3D (Connector; Header; 12 Position)
pins: 1, 2, 3, 4, 5, 6, 7, 8, 9, 10, 11, 12

## PLS-13
designator X?
Header, 13-Pin; LatestRevisionDate: 17-Jul-2002; LatestRevisionNote: Re-released for DXP Platform.; Publisher: Altium Limited
footprint PXS-13 (Connector; Header; 13 Position)
footprint PLS-13-3D (Connector; Header; 13 Position)
pins: 1, 2, 3, 4, 5, 6, 7, 8, 9, 10, 11, 12, 13

## PLS-14
designator X?
Header, 14-Pin; LatestRevisionDate: 17-Jul-2002; LatestRevisionNote: Re-released for DXP Platform.; Publisher: Altium Limited
footprint PXS-14 (Connector; Header; 14 Position)
footprint PLS-14-3D (Connector; Header; 14 Position)
pins: 1, 2, 3, 4, 5, 6, 7, 8, 9, 10, 11, 12, 13, 14

## PLS-15
designator X?
Header, 15-Pin; LatestRevisionDate: 17-Jul-2002; LatestRevisionNote: Re-released for DXP Platform.; Publisher: Altium Limited
footprint PXS-15 (Connector; Header; 15 Position)
footprint PLS-15-3D (Connector; Header; 15 Position)
pins: 1, 2, 3, 4, 5, 6, 7, 8, 9, 10, 11, 12, 13, 14, 15

## PLS-16
designator X?
Header, 16-Pin; LatestRevisionDate: 17-Jul-2002; LatestRevisionNote: Re-released for DXP Platform.; Publisher: Altium Limited
footprint PXS-16 (Connector; Header; 16 Position)
footprint PLS-16-3D (Connector; Header; 16 Position)
pins: 1, 2, 3, 4, 5, 6, 7, 8, 9, 10, 11, 12, 13, 14, 15, 16

## PLS-17
designator X?
Header, 17-Pin; LatestRevisionDate: 17-Jul-2002; LatestRevisionNote: Re-released for DXP Platform.; Publisher: Altium Limited
footprint PXS-17 (Connector; Header; 17 Position)
footprint PLS-17-3D (Connector; Header; 17 Position)
pins: 1, 2, 3, 4, 5, 6, 7, 8, 9, 10, 11, 12, 13, 14, 15, 16, 17

## PLS-18
designator X?
Header, 18-Pin; LatestRevisionDate: 17-Jul-2002; LatestRevisionNote: Re-released for DXP Platform.; Publisher: Altium Limited
footprint PXS-18 (Connector; Header; 18 Position)
footprint PLS-18-3D (Connector; Header; 18 Position)
pins: 1, 2, 3, 4, 5, 6, 7, 8, 9, 10, 11, 12, 13, 14, 15, 16, 17, 18

## PLS-19
designator X?
Header, 19-Pin; LatestRevisionDate: 17-Jul-2002; LatestRevisionNote: Re-released for DXP Platform.; Publisher: Altium Limited
footprint PXS-19 (Connector; Header; 19 Position)
footprint PLS-19-3D (Connector; Header; 19 Position)
pins: 1, 2, 3, 4, 5, 6, 7, 8, 9, 10, 11, 12, 13, 14, 15, 16, 17, 18, 19

## PLS-20
designator X?
Header, 20-Pin; LatestRevisionDate: 17-Jul-2002; LatestRevisionNote: Re-released for DXP Platform.; Publisher: Altium Limited
footprint PXS-20 (Connector; Header; 20 Position)
footprint PLS-20-3D (Connector; Header; 20 Position)
pins: 1, 2, 3, 4, 5, 6, 7, 8, 9, 10, 11, 12, 13, 14, 15, 16, 17, 18, 19, 20

## PNP_SOT89
designator Q?
footprint SOT89
pins: 1, 2, 3, 4

## PWL-2
designator X?  (value not drawn)
Header, 2-Pin; LatestRevisionDate: 17-Jul-2002; LatestRevisionNote: Re-released for DXP Platform.; Publisher: Altium Limited
footprint PWL-2 (Connector; Header; 2 Position)
pins: 1, 2

## PWL-3
designator X?  (value not drawn)
Header, 3-Pin; LatestRevisionDate: 17-Jul-2002; LatestRevisionNote: Re-released for DXP Platform.; Publisher: Altium Limited
footprint PWL-3 (Connector; Header; 3 Position)
pins: 1, 2, 3

## PWL-4
designator X?  (value not drawn)
Header, 4-Pin; LatestRevisionDate: 17-Jul-2002; LatestRevisionNote: Re-released for DXP Platform.; Publisher: Altium Limited
footprint PWL-4 (Connector; Header; 4 Position)
pins: 1, 2, 3, 4

## PWL-5
designator X?  (value not drawn)
Header, 5-Pin; LatestRevisionDate: 17-Jul-2002; LatestRevisionNote: Re-released for DXP Platform.; Publisher: Altium Limited
footprint PWL-5 (Connector; Header; 5 Position)
pins: 1, 2, 3, 4, 5

## PWL-6
designator X?  (value not drawn)
Header, 6-Pin; LatestRevisionDate: 17-Jul-2002; LatestRevisionNote: Re-released for DXP Platform.; Publisher: Altium Limited
footprint PWL-6 (Connector; Header; 6 Position)
pins: 1, 2, 3, 4, 5, 6

## PWL-7
designator X?  (value not drawn)
Header, 7-Pin; LatestRevisionDate: 17-Jul-2002; LatestRevisionNote: Re-released for DXP Platform.; Publisher: Altium Limited
footprint PWL-7 (Connector; Header; 7 Position)
pins: 1, 2, 3, 4, 5, 6, 7

## PWL-8
designator X?  (value not drawn)
Header, 8-Pin; LatestRevisionDate: 17-Jul-2002; LatestRevisionNote: Re-released for DXP Platform.; Publisher: Altium Limited
footprint PWL-8 (Connector; Header; 8 Position)
pins: 1, 2, 3, 4, 5, 6, 7, 8

## PWL-9
designator X?  (value not drawn)
Header, 9-Pin; LatestRevisionDate: 17-Jul-2002; LatestRevisionNote: Re-released for DXP Platform.; Publisher: Altium Limited
footprint PWL-9 (Connector; Header; 9 Position)
pins: 1, 2, 3, 4, 5, 6, 7, 8, 9

## PWL-10
designator X?  (value not drawn)
Header, 10-Pin; LatestRevisionDate: 17-Jul-2002; LatestRevisionNote: Re-released for DXP Platform.; Publisher: Altium Limited
footprint PWL-10 (Connector; Header; 10 Position)
pins: 1, 2, 3, 4, 5, 6, 7, 8, 9, 10

## R0603
designator R?, comment {Value}
Resistor; Value: {Value}
footprint R_0603
pins: 1, 2

## R0805
designator R?, comment {Value}
Resistor; Value: {Value}
footprint R_0805 (Resistor Pattern)
pins: 1, 2

## R1206
designator R?, comment {Value}
Resistor; Value: {Value}
footprint R_1206
pins: 1, 2

## R2512
designator R?, comment {Value}
Resistor; Value: {Value}
footprint R2512
pins: 1, 2

## RJ45
designator J?
RJ45 Jack
footprint RJ45
pins: 1, 2, 3, 4, 5, 6, 7, 8, 9 A, 10 K, 11 K, 12 A, MH1, MH2, MH3, MH4

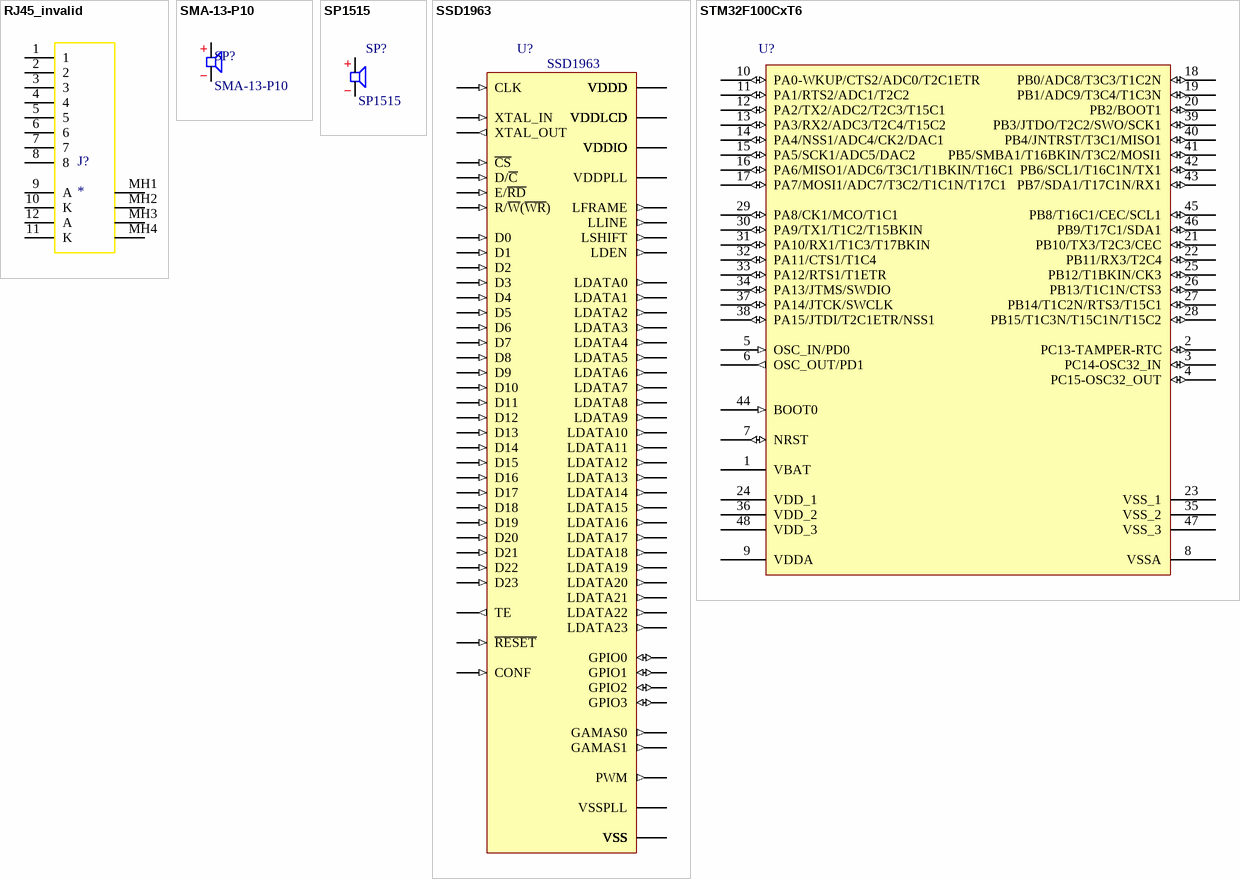
[diagram p7: symbols RJ45_invalid to STM32F100CxT6]

## RJ45_invalid
designator J?
footprint RJ45_invalid
pins: 1, 2, 3, 4, 5, 6, 7, 8, 9 A, 10 K, 11 K, 12 A, MH1, MH2, MH3, MH4

## SMA-13-P10
designator SP?
Speaker w/frequency generator
footprint SMA-13-P10
pins: 1 +, 2 -

## SP1515
designator SP?
Dinamic 1515 8 ohm
footprint SP1515 (13mm 0.7w dinamic speaker)
pins: V+ +, V- -

## SSD1963
designator U?
footprint LQFP128 (Thin QFP, 128Leads, Body 14x14mm, Pitch 0.4mm, IPC Low Density)
pins: 1 VDDD, 2 VSS "Ground", 3 VSS "Ground", 4 VDDIO "MCU IO Power Supply", 5 VSS "Ground", 6 VDDD, 7 D0 (in) "MCU Data", 8 D1 (in) "MCU Data", 9 D2 (in) "MCU Data", 10 D3 (in) "MCU Data", 11 D4 (in) "MCU Data", 12 VDDIO "MCU IO Power Supply", 13 VSS "Ground", 14 VDDD, 15 CLK (in) "TTL Clock input", 16 VDDIO "MCU IO Power Supply", 17 VSS "Ground", 18 VDDPLL "Analog supply voltage", 19 VSSPLL "Analog ground", 20 VSS "Ground", 21 VDDD, 22 XTAL_IN (in) "Crystal oscillator input", 23 VSS "Ground", 24 XTAL_OUT (out) "Crystal oscillator output", 25 VDDD, 26 VSS "Ground", 27 VDDLCD "LCD IO Power Supply", 28 LDATA23 (out) "RGB Data", 29 LDATA22 (out) "RGB Data", 30 LDATA21 (out) "RGB Data", 31 LDATA20 (out) "RGB Data", 32 VDDD, 33 VSS "Ground", 34 VDDLCD "LCD IO Power Supply", 35 LDATA17 (out) "RGB Data", 36 GPIO0 (io) "GPIO", 37 GPIO1 (io) "GPIO", 38 GPIO2 (io) "GPIO", 39 GPIO3 (io) "GPIO", 40 VDDD, 41 VSS "Ground", 42 VDDLCD "LCD IO Power Supply", 43 LFRAME (out) "Vertical Sync", 44 LLINE (out) "Horizontal Sync", 45 LSHIFT (out) "Pixel Clock", 46 VDDD, 47 VSS "Ground", 48 VDDLCD "LCD IO Power Supply", 49 LDEN (out) "Data Valid", 50 TE (out) "Tearing effect", 51 PWM (out) "Backlight PWM Signal", 52 GAMAS0 (out) "Gamma Selection for panel", 53 GAMAS1 (out) "Gamma Selection for panel", 54 VDDLCD "LCD IO Power Supply", 55 VSS "Ground", 56 VDDD, 57 VSS "Ground", 58 VDDLCD "LCD IO Power Supply", 59 LDATA16 (out) "RGB Data", 60 LDATA15 (out) "RGB Data", 61 LDATA14 (out) "RGB Data", 62 LDATA13 (out) "RGB Data", 63 LDATA12 (out) "RGB Data", 64 VDDD, 65 VSS "Ground", 66 VDDLCD "LCD IO Power Supply", 67 LDATA11 (out) "RGB Data", 68 LDATA10 (out) "RGB Data", 69 LDATA9 (out) "RGB Data", 70 LDATA8 (out) "RGB Data", 71 LDATA7 (out) "RGB Data", 72 LDATA6 (out) "RGB Data", 73 VDDD, 74 VSS "Ground", 75 VDDLCD "LCD IO Power Supply", 76 LDATA5 (out) "RGB Data", 77 LDATA4 (out) "RGB Data", 78 LDATA3 (out) "RGB Data", 79 LDATA2 (out) "RGB Data", 80 LDATA1 (out) "RGB Data", 81 LDATA0 (out) "RGB Data", 82 VDDD, 83 VSS "Ground", 84 VDDLCD "LCD IO Power Supply", 85 LDATA19 (out) "RGB Data", 86 LDATA18 (out) "RGB Data", 87 D19 (in) "MCU Data", 88 D18 (in) "MCU Data", 89 D23 (in) "MCU Data", 90 D22 (in) "MCU Data", 91 D21 (in) "MCU Data", 92 D20 (in) "MCU Data", 93 VDDD, 94 VSS "Ground", 95 VDDIO "MCU IO Power Supply", 96 VSS "Ground", 97 VDDIO "MCU IO Power Supply", 98 D17 (in) "MCU Data", 99 D16 (in) "MCU Data", 100 VDDIO "MCU IO Power Supply", 101 VSS "Ground", 102 VDDD, 103 D15 (in) "MCU Data", 104 D14 (in) "MCU Data", 105 D13 (in) "MCU Data", 106 D12 (in) "MCU Data", 107 D11 (in) "MCU Data", 108 VDDIO "MCU IO Power Supply", 109 VSS "Ground", 110 VDDD, 111 D10 (in) "MCU Data", 112 D9 (in) "MCU Data", 113 D8 (in) "MCU Data", 114 D7 (in) "MCU Data", 115 D6 (in) "MCU Data", 116 D5 (in) "MCU Data", 117 VDDIO "MCU IO Power Supply", 118 VSS "Ground", 119 VDDD, 120 R/~{W}(~{WR}) (in) "Read/Write/Write strobe", 121 E/~{RD} (in) "Enable/Read strobe signal", 122 D/~{C} (in) "Data/Command select", 123 ~{CS} (in) "Chip select", 124 VDDIO "MCU IO Power Supply", 125 VSS "Ground", 126 VDDD, 127 ~{RESET} (in) "Master reset", 128 CONF (in) "MCU Configuration"

## STM32F100CxT6
designator U?
STM32 ARM-based 32-bit MCU with 32 Kbytes Flash, 48-pin LQFP, Industrial Temperature; Published: 30-May-2008; DatasheetVersion: Mar-2010; PackageVersion: Mar-2008; PackageReference: LQFP48; Publisher: Altium Limited; PackageDescription: 48-Pin Low-Profile Quad Flat Pack, 7 x 7 mm Body, 0.5 mm Pitch (LQFP48); ComponentLink1Description: Manufacturer Link; ComponentLink1URL: www.st.com/stm32; ComponentLink2Description: Datasheet; ComponentLink2URL: http://www.st.com/stonline/products/literature/ds/13586.pdf
footprint LQFP48_N (Thin QFP, 48-Leads, Body 7x7mm, Pitch 0.5mm, IPC Medium Density)
footprint LQFP48_L (Thin QFP, 48-Leads, Body 7x7mm, Pitch 0.5mm, IPC High Density)
footprint LQFP48_M (Thin QFP, 48-Leads, Body 7x7mm, Pitch 0.5mm, IPC Low Density)
pins: 1 VBAT (power), 2 PC13-TAMPER-RTC (io), 3 PC14-OSC32_IN (io), 4 PC15-OSC32_OUT (io), 5 OSC_IN/PD0 (in), 6 OSC_OUT/PD1 (out), 7 NRST (io), 8 VSSA (power), 9 VDDA (power), 10 PA0-WKUP/CTS2/ADC0/T2C1ETR (io), 11 PA1/RTS2/ADC1/T2C2 (io), 12 PA2/TX2/ADC2/T2C3/T15C1 (io), 13 PA3/RX2/ADC3/T2C4/T15C2 (io), 14 PA4/NSS1/ADC4/CK2/DAC1 (io), 15 PA5/SCK1/ADC5/DAC2 (io), 16 PA6/MISO1/ADC6/T3C1/T1BKIN/T16C1 (io), 17 PA7/MOSI1/ADC7/T3C2/T1C1N/T17C1 (io), 18 PB0/ADC8/T3C3/T1C2N (io), 19 PB1/ADC9/T3C4/T1C3N (io), 20 PB2/BOOT1 (io), 21 PB10/TX3/T2C3/CEC (io), 22 PB11/RX3/T2C4 (io), 23 VSS_1 (power), 24 VDD_1 (power), 25 PB12/T1BKIN/CK3 (io), 26 PB13/T1C1N/CTS3 (io), 27 PB14/T1C2N/RTS3/T15C1 (io), 28 PB15/T1C3N/T15C1N/T15C2 (io), 29 PA8/CK1/MCO/T1C1 (io), 30 PA9/TX1/T1C2/T15BKIN (io), 31 PA10/RX1/T1C3/T17BKIN (io), 32 PA11/CTS1/T1C4 (io), 33 PA12/RTS1/T1ETR (io), 34 PA13/JTMS/SWDIO (io), 35 VSS_2 (power), 36 VDD_2 (power), 37 PA14/JTCK/SWCLK (io), 38 PA15/JTDI/T2C1ETR/NSS1 (io), 39 PB3/JTDO/T2C2/SWO/SCK1 (io), 40 PB4/JNTRST/T3C1/MISO1 (io), 41 PB5/SMBA1/T16BKIN/T3C2/MOSI1 (io), 42 PB6/SCL1/T16C1N/TX1 (io), 43 PB7/SDA1/T17C1N/RX1 (io), 44 BOOT0 (in), 45 PB8/T16C1/CEC/SCL1 (io), 46 PB9/T17C1/SDA1 (io), 47 VSS_3 (power), 48 VDD_3 (power)

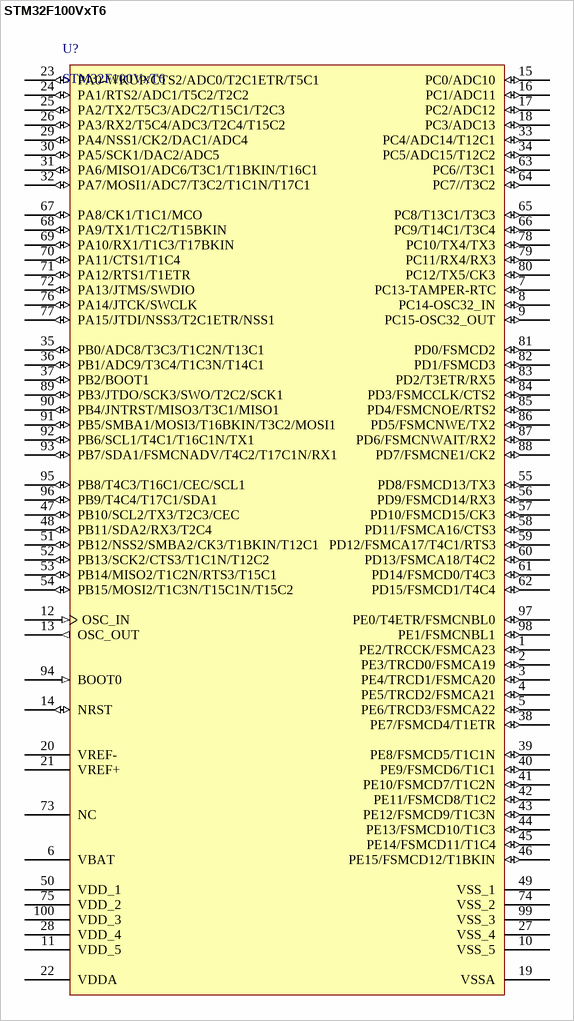
[diagram p8: symbol STM32F100VxT6]

## STM32F100VxT6
designator U?
STM32 ARM-based 32-bit MCU with 64 Kbytes Flash, 100-pin LQFP, Industrial Temperature; Published: 30-May-2008; DatasheetVersion: rev6, Mar-2008; PackageVersion: Mar-2008; PackageReference: LQFP100; Publisher: Altium Limited; PackageDescription: 100-Pin Low-Profile Quad Flat Pack, 14 x 14 mm Body, 0.5 mm Pitch (LQFP100); ComponentLink1Description: Manufacturer Link; ComponentLink1URL: www.st.com/stm32; ComponentLink2Description: Datasheet; ComponentLink2URL: http://www.st.com/stonline/products/literature/ds/13587.pdf
footprint LQFP100_N (Thin QFP, 100-Leads, Body 14x14mm, Pitch 0.5mm, IPC Medium Density)
footprint LQFP100_L (Thin QFP, 100-Leads, Body 14x14mm, Pitch 0.5mm, IPC High Density)
footprint LQFP100_M (Thin QFP, 100-Leads, Body 14x14mm, Pitch 0.5mm, IPC Low Density)
pins: 1 PE2/TRCCK/FSMCA23 (io), 2 PE3/TRCD0/FSMCA19 (io), 3 PE4/TRCD1/FSMCA20 (io), 4 PE5/TRCD2/FSMCA21 (io), 5 PE6/TRCD3/FSMCA22 (io), 6 VBAT (power), 7 PC13-TAMPER-RTC (io), 8 PC14-OSC32_IN (io), 9 PC15-OSC32_OUT (io), 10 VSS_5 (power), 11 VDD_5 (power), 12 OSC_IN (in), 13 OSC_OUT (out), 14 NRST (io), 15 PC0/ADC10 (io), 16 PC1/ADC11 (io), 17 PC2/ADC12 (io), 18 PC3/ADC13 (io), 19 VSSA (power), 20 VREF- (power), 21 VREF+ (power), 22 VDDA (power), 23 PA0-WKUP/CTS2/ADC0/T2C1ETR/T5C1 (io), 24 PA1/RTS2/ADC1/T5C2/T2C2 (io), 25 PA2/TX2/T5C3/ADC2/T15C1/T2C3 (io), 26 PA3/RX2/T5C4/ADC3/T2C4/T15C2 (io), 27 VSS_4 (power), 28 VDD_4 (power), 29 PA4/NSS1/CK2/DAC1/ADC4 (io), 30 PA5/SCK1/DAC2/ADC5 (io), 31 PA6/MISO1/ADC6/T3C1/T1BKIN/T16C1 (io), 32 PA7/MOSI1/ADC7/T3C2/T1C1N/T17C1 (io), 33 PC4/ADC14/T12C1 (io), 34 PC5/ADC15/T12C2 (io), 35 PB0/ADC8/T3C3/T1C2N/T13C1 (io), 36 PB1/ADC9/T3C4/T1C3N/T14C1 (io), 37 PB2/BOOT1 (io), 38 PE7/FSMCD4/T1ETR (io), 39 PE8/FSMCD5/T1C1N (io), 40 PE9/FSMCD6/T1C1 (io), 41 PE10/FSMCD7/T1C2N (io), 42 PE11/FSMCD8/T1C2 (io), 43 PE12/FSMCD9/T1C3N (io), 44 PE13/FSMCD10/T1C3 (io), 45 PE14/FSMCD11/T1C4 (io), 46 PE15/FSMCD12/T1BKIN (io), 47 PB10/SCL2/TX3/T2C3/CEC (io), 48 PB11/SDA2/RX3/T2C4 (io), 49 VSS_1 (power), 50 VDD_1 (power), 51 PB12/NSS2/SMBA2/CK3/T1BKIN/T12C1 (io), 52 PB13/SCK2/CTS3/T1C1N/T12C2 (io), 53 PB14/MISO2/T1C2N/RTS3/T15C1 (io), 54 PB15/MOSI2/T1C3N/T15C1N/T15C2 (io), 55 PD8/FSMCD13/TX3 (io), 56 PD9/FSMCD14/RX3 (io), 57 PD10/FSMCD15/CK3 (io), 58 PD11/FSMCA16/CTS3 (io), 59 PD12/FSMCA17/T4C1/RTS3 (io), 60 PD13/FSMCA18/T4C2 (io), 61 PD14/FSMCD0/T4C3 (io), 62 PD15/FSMCD1/T4C4 (io), 63 PC6//T3C1 (io), 64 PC7//T3C2 (io), 65 PC8/T13C1/T3C3 (io), 66 PC9/T14C1/T3C4 (io), 67 PA8/CK1/T1C1/MCO (io), 68 PA9/TX1/T1C2/T15BKIN (io), 69 PA10/RX1/T1C3/T17BKIN (io), 70 PA11/CTS1/T1C4 (io), 71 PA12/RTS1/T1ETR (io), 72 PA13/JTMS/SWDIO (io), 73 NC, 74 VSS_2 (power), 75 VDD_2 (power), 76 PA14/JTCK/SWCLK (io), 77 PA15/JTDI/NSS3/T2C1ETR/NSS1 (io), 78 PC10/TX4/TX3 (io), 79 PC11/RX4/RX3 (io), 80 PC12/TX5/CK3 (io), 81 PD0/FSMCD2 (io), 82 PD1/FSMCD3 (io), 83 PD2/T3ETR/RX5 (io), 84 PD3/FSMCCLK/CTS2 (io), 85 PD4/FSMCNOE/RTS2 (io), 86 PD5/FSMCNWE/TX2 (io), 87 PD6/FSMCNWAIT/RX2 (io), 88 PD7/FSMCNE1/CK2 (io), 89 PB3/JTDO/SCK3/SWO/T2C2/SCK1 (io), 90 PB4/JNTRST/MISO3/T3C1/MISO1 (io), 91 PB5/SMBA1/MOSI3/T16BKIN/T3C2/MOSI1 (io), 92 PB6/SCL1/T4C1/T16C1N/TX1 (io), 93 PB7/SDA1/FSMCNADV/T4C2/T17C1N/RX1 (io), 94 BOOT0 (in), 95 PB8/T4C3/T16C1/CEC/SCL1 (io), 96 PB9/T4C4/T17C1/SDA1 (io), 97 PE0/T4ETR/FSMCNBL0 (io), 98 PE1/FSMCNBL1 (io), 99 VSS_3 (power), 100 VDD_3 (power)

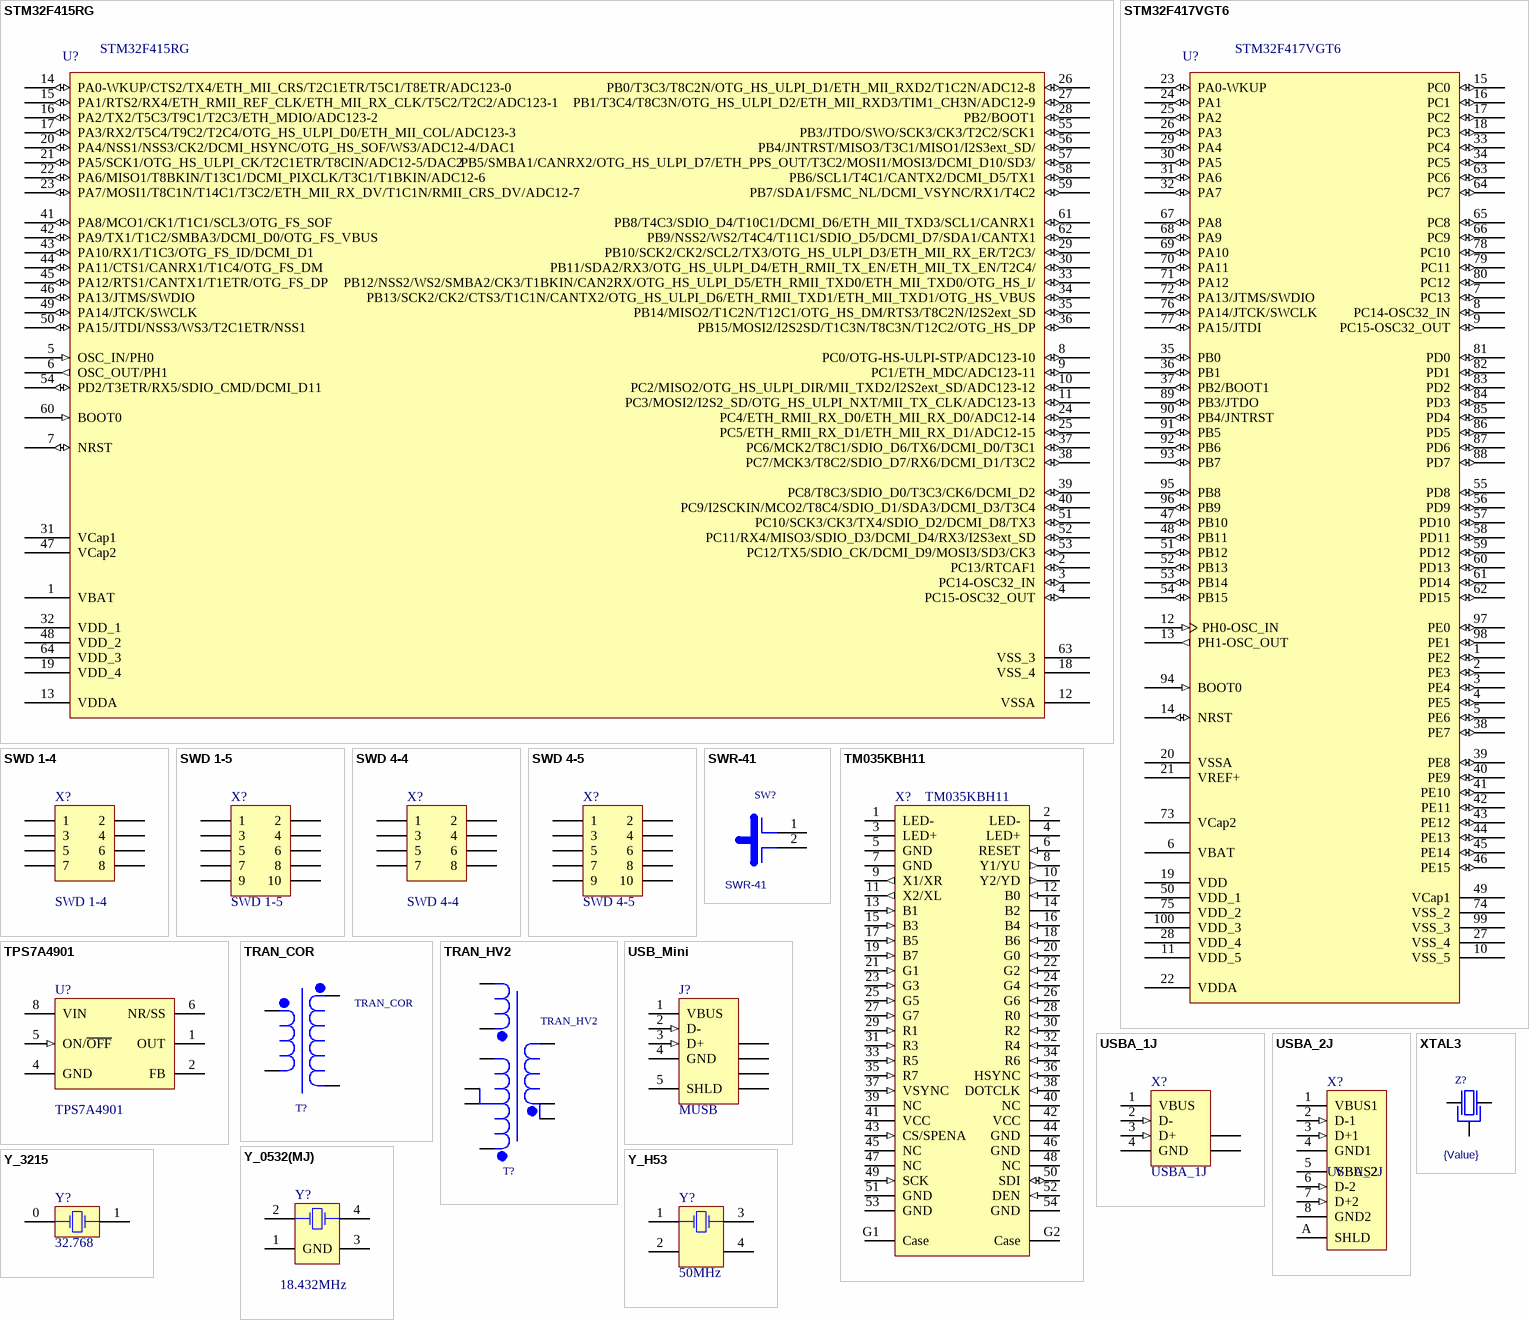
[diagram p9: symbols STM32F415RG to Y_H53]